# EAGLE library part 691314520116 (library Eagle_WR-TBL Pluggable Connector (rev21a))
WR-TBL Serie 314 - 5.08 mm Close PCB Header KIND PROPERTIES Pitch 5.08 mm MATERIAL PROPERTIES Insulator Material PA66 Insulator Flammability Rating UL94 V-0 Contact Material Brass Contact Plating Tin GENERAL INFORMATION Operating Temperature -40 up to +105 °C Compliance RoHS ELECTRICAL PROPERTIES IR cULus 20 A IR VDE 20 A Working Voltage [cULus] 300 V (AC) Working Voltage [VDE] 300 V (AC) Withstanding Voltage [cULus] 1600 V (AC) Withstanding Voltage [VDE] 2500 V (AC) Contact Resistance [cULus] 20 mΩ Contact Resistance [VDE] 20 mΩ CERTIFICATION cULus Approval E315414 VDE Approval 40023195 <https://www.we-online.com/catalog/media/o33267v209%20Family_WR-TBL_6913145201xx.jpg> Details see: https://www.we-online.com/catalog/en/TBL_5_08_314_CLOSE_PCB_HEADER_6913145201XX/ Updated by Ella Wu 2019-12-26 2019(C) Wurth Elektronik
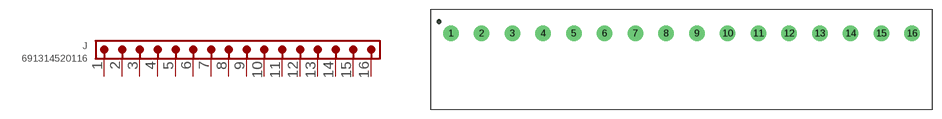
[diagram p376: symbol with the pads of 691314520116; footprint 691314520116]

Designator prefix J

## 691314520116 (DATASHEET-URL: https://www.we-online.com/catalog/datasheet/691314520116.pdf; IR-UL: 20A; IR-VDE: 20A; MOUNT: THT; PART-NUMBER: 691314520116; PINS: 16; PITCH: 5.08mm; TYPE: 45°; VALUE: 691314520116; WORKING-VOLTAGE-UL: 300V (AC); WORKING-VOLTAGE-VDE: 300V (AC))  [691314520116]
1  1  pas
2  2  pas
3  3  pas
4  4  pas
5  5  pas
6  6  pas
7  7  pas
8  8  pas
9  9  pas
10  10  pas
11  11  pas
12  12  pas
13  13  pas
14  14  pas
15  15  pas
16  16  pas

## Footprint 691314520116 (pad centres in mm)
WR-TBL Serie 314 - 5.08 mm Close PCB Header Max Height = 14.5mm , Pitch 5.08mm , 16pins
drill 1.7: 1 -38.1,0; 2 -33.02,0; 3 -27.94,0; 4 -22.86,0; 5 -17.78,0; 6 -12.7,0; 7 -7.62,0; 8 -2.54,0; 9 2.54,0; 10 7.62,0; 11 12.7,0; 12 17.78,0; 13 22.86,0; 14 27.94,0; 15 33.02,0; 16 38.1,0